# Altium schematic symbol library TXS0206AYFPR.SchLib: 1 symbol
Pins are listed as number, name and electrical type; pins without a type are passive.

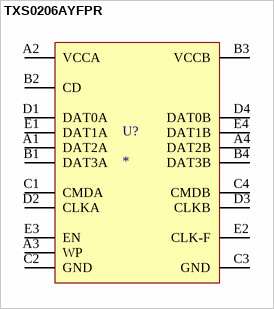
[diagram p0: symbol TXS0206AYFPR]

## TXS0206AYFPR
designator U?
pins: A1 DAT2A, A2 VCCA, A3 WP, A4 DAT2B, B1 DAT3A, B2 CD, B3 VCCB, B4 DAT3B, C1 CMDA, C2 GND, C3 GND, C4 CMDB, D1 DAT0A, D2 CLKA, D3 CLKB, D4 DAT0B, E1 DAT1A, E2 CLK-F, E3 EN, E4 DAT1B